# EAGLE library part MPU-6050 (library aerial)
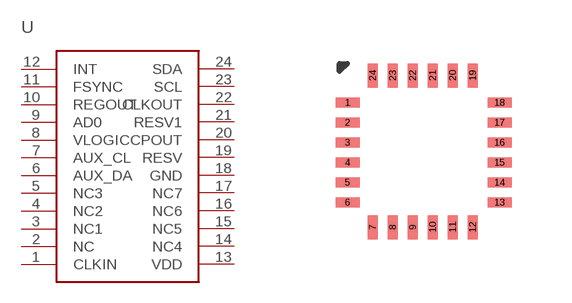
[diagram p6: symbol with the pads of QFN-ITG3200; footprint QFN-ITG3200]

Designator prefix U

## MPU-6050  [QFN-ITG3200]
1  CLKIN
2  NC
3  NC1
4  NC2
5  NC3
6  AUX_DA
7  AUX_CL
8  VLOGIC
9  AD0
10  REGOUT
11  FSYNC
12  INT
13  VDD
14  NC4
15  NC5
16  NC6
17  NC7
18  GND
19  RESV
20  CPOUT
21  RESV1
22  CLKOUT
23  SCL
24  SDA

## Footprint QFN-ITG3200 (pad centres in mm)
smd 0.6 x 0.25: 1 0.1,3.225; 2 0.1,2.725; 3 0.1,2.225; 4 0.1,1.725; 5 0.1,1.225; 6 0.1,0.725; 13 3.9,0.725; 14 3.9,1.225; 15 3.9,1.725; 16 3.9,2.225; 17 3.9,2.725; 18 3.9,3.225
smd 0.25 x 0.6: 7 0.725,0.1; 8 1.225,0.1; 9 1.725,0.1; 10 2.225,0.1; 11 2.725,0.1; 12 3.225,0.1; 19 3.225,3.9; 20 2.725,3.9; 21 2.225,3.9; 22 1.725,3.9; 23 1.225,3.9; 24 0.725,3.9